# Altium footprint library IND_MURATA_1100R.PcbLib: 1 footprints
Each footprint in its own frame and in the unit in brackets; x right, y up, seen from the top. Pads: shape width x height; smd on the part's side, far side on the other; paste and mask are expansions set on the pad; w line width, h text height; cw(c..) or ccw(c..) is an arc to the next point about the centre after c.
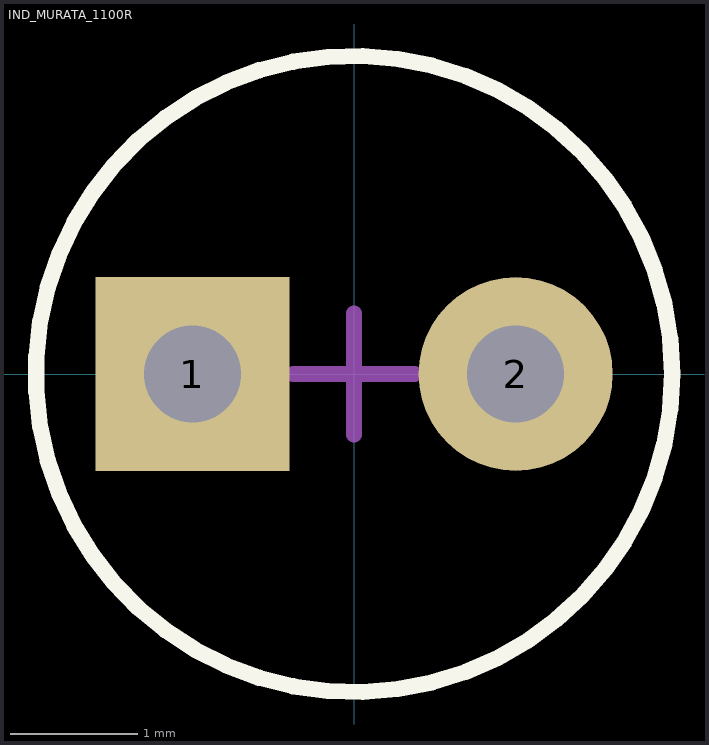
[diagram p0: the footprint, top view; thin cyan lines are the x and y axes]

## IND_MURATA_1100R [mil]
pads (2):
  rect 60x60 hole 30: 1(-50,0)
  round 60 hole 30: 2(50,0)
Top Overlay:
  circle w5: c0,0 r98.43
Mechanical 15:
  lines w5: -18.7,0 18.7,0 ; 0,-18.7 0,18.7
3D body: height 62.99, standoff -78.74, extent 38.28,-11.76 61.81,11.81
3D body: height 62.99, standoff -78.74, extent -61.81,-11.79 -38.19,11.84
3D body "User Library-SDR0403.STEP": height 137.8, standoff 0, extent -88.58,-88.58 88.59,88.59